# EAGLE library part 05_PINHEAD_1X6 (library ftdi_ft231xq-r)
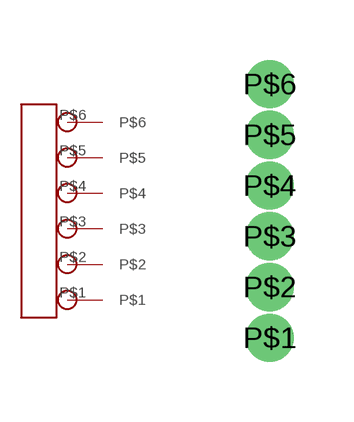
[diagram p1: symbol with the pads of 05_PINHEAD_1X6_PACKAGE; footprint 05_PINHEAD_1X6_PACKAGE]

Designator prefix -

## 05_PINHEAD_1X6  [05_PINHEAD_1X6_PACKAGE]
P$1  P$1
P$2  P$2
P$3  P$3
P$4  P$4
P$5  P$5
P$6  P$6

## Footprint 05_PINHEAD_1X6_PACKAGE (pad centres in mm)
drill 0.7 pad 1.143: P$1 0,0; P$2 0,1.27; P$3 0,2.54; P$4 0,3.81; P$5 0,5.08; P$6 0,6.35